# Altium footprint library Bipolar_Transistor.PcbLib: 3 footprints
Each footprint in its own frame and in the unit in brackets; x right, y up, seen from the top. Pads: shape width x height; smd on the part's side, far side on the other; paste and mask are expansions set on the pad; w line width, h text height; cw(c..) or ccw(c..) is an arc to the next point about the centre after c.
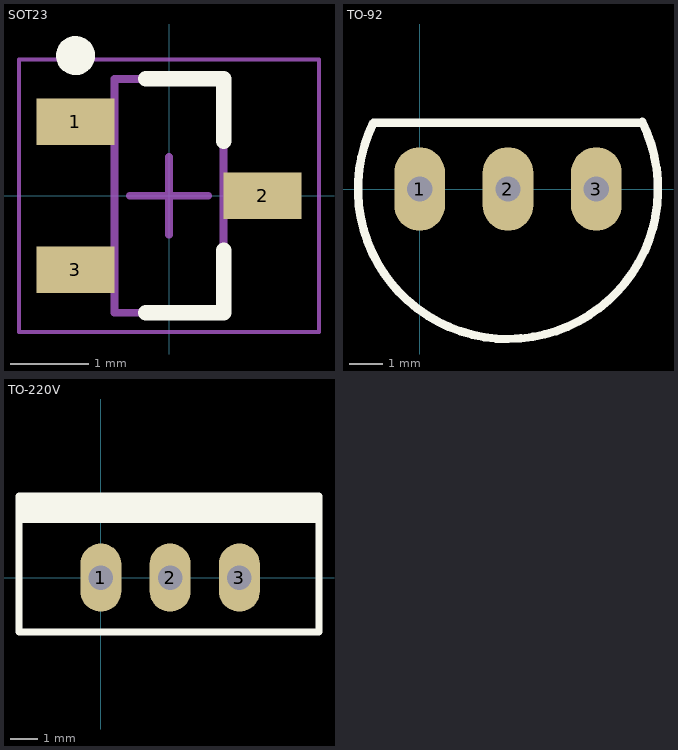
[diagram p0: the footprints below, top view; thin cyan lines are the x and y axes]

## SOT23 [mm] "SOT23, 3-Leads, Body 2,90x2,45mm, Pitch 0,95mm, IPC Medium Density"
height 1.1
pads (3):
  rect 1x0.6 smd: 1(-1.2,0.95) 2(1.2,0) 3(-1.2,-0.95)
Top Overlay:
  circle w0.25: c-1.2,1.8 r0.125
  lines w0.2: -0.3,-1.5 0.7,-1.5 0.7,-0.7 ; -0.3,1.5 0.7,1.5 0.7,0.7
Mechanical 13:
  lines w0.1: -0.7,-1.5 -0.7,1.5 0.7,1.5 0.7,-1.5 -0.7,-1.5
Mechanical 15:
  lines w0.05: -1.925,-1.75 -1.925,1.75 1.925,1.75 1.925,-1.75 -1.925,-1.75
  lines w0.1: -0.5,0 0.5,0 ; 0,-0.5 0,0.5
3D body "BAS16.STEP": height 1.09, standoff 0, extent -1.2,-1.397 1.238,1.397

## TO-92 [mil]
pads (3):
  oval 60x98.43 hole 30: 1(0,0) 2(104.33,0) 3(208.66,0)
Top Overlay:
  lines w10: -54.52,78.45 ccw(c104.33,0) 262.79,79.23 262.79,78.45 -54.52,78.45
3D body "TO-92_Bent.STEP": height 433.07, standoff -78.74, extent -5.51,-98.42 214.17,67.07

## TO-220V [mm]
pads (3):
  oval 1.5x2.5 hole 0.9: 1(0,0) 2(2.54,0) 3(5.08,0)
Top Overlay:
  rectangle: -3,2 8,3
  lines w0.254: -3,-2 8,-2 8,3 -3,3 -3,-2
3D body "TO-220AB.STEP": height 21.86, standoff -2, extent -2.76,-2.225 7.91,2.605